# EAGLE library part AD1939WBSTZ (library AD1939WBSTZ)
Audio Codec 4ADC / 8DAC 24-Bit LQFP64 Analog Devices, Audio Codec Stereo Audio 12-channel 24bit- 192kHz Serial 64-Pin LQFP Source: Datasheet <https://componentsearchengine.com/Datasheets/1/AD1939WBSTZ.pdf>
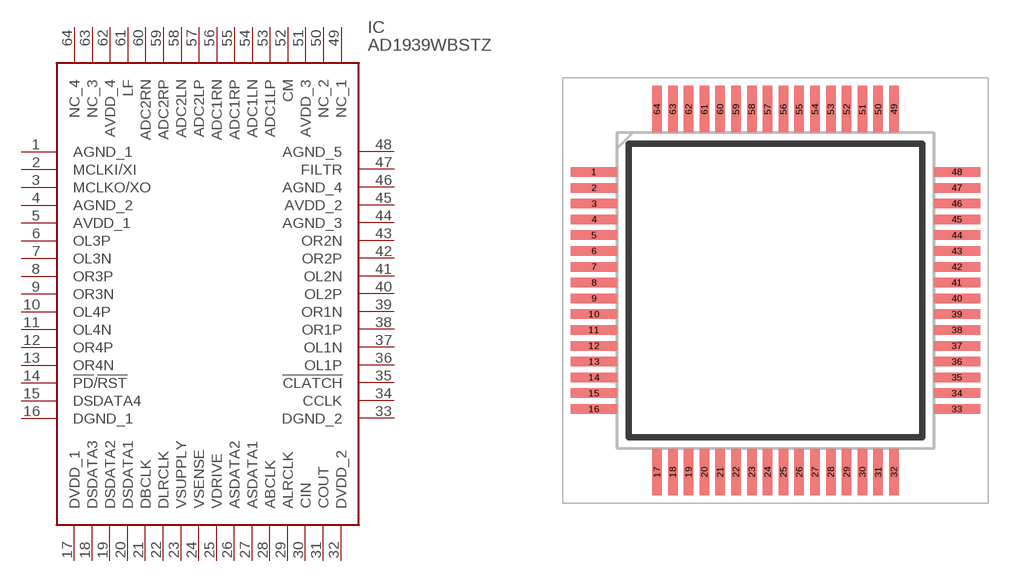
[diagram p0: symbol with the pads of QFP50P1200X1200X160-64N; footprint QFP50P1200X1200X160-64N]

Designator prefix IC

## AD1939WBSTZ (Description: Audio Codec 4ADC / 8DAC 24-Bit LQFP64 Analog Devices, Audio Codec Stereo Audio 12-channel 24bit- 192kHz Serial 64-Pin LQFP; Height: 1.6mm; Manufacturer_Name: Analog Devices; Manufacturer_Part_Number: AD1939WBSTZ; Mouser_Part_Number: 584-AD1939WBSTZ)  [QFP50P1200X1200X160-64N]
1  AGND_1
2  MCLKI/XI
3  MCLKO/XO
4  AGND_2
5  AVDD_1
6  OL3P
7  OL3N
8  OR3P
9  OR3N
10  OL4P
11  OL4N
12  OR4P
13  OR4N
14  !PD!/!RST
15  DSDATA4
16  DGND_1
17  DVDD_1
18  DSDATA3
19  DSDATA2
20  DSDATA1
21  DBCLK
22  DLRCLK
23  VSUPPLY
24  VSENSE
25  VDRIVE
26  ASDATA2
27  ASDATA1
28  ABCLK
29  ALRCLK
30  CIN
31  COUT
32  DVDD_2
33  DGND_2
34  CCLK
35  !CLATCH
36  OL1P
37  OL1N
38  OR1P
39  OR1N
40  OL2P
41  OL2N
42  OR2P
43  OR2N
44  AGND_3
45  AVDD_2
46  AGND_4
47  FILTR
48  AGND_5
49  NC_1
50  NC_2
51  AVDD_3
52  CM
53  ADC1LP
54  ADC1LN
55  ADC1RP
56  ADC1RN
57  ADC2LP
58  ADC2LN
59  ADC2RP
60  ADC2RN
61  LF
62  AVDD_4
63  NC_3
64  NC_4

## Footprint QFP50P1200X1200X160-64N (pad centres in mm)
ST-64-2 (LQFP)
smd 1.475 x 0.3: 1 -5.738,3.75; 2 -5.738,3.25; 3 -5.738,2.75; 4 -5.738,2.25; 5 -5.738,1.75; 6 -5.738,1.25; 7 -5.738,0.75; 8 -5.738,0.25; 9 -5.738,-0.25; 10 -5.738,-0.75; 11 -5.738,-1.25; 12 -5.738,-1.75; 13 -5.738,-2.25; 14 -5.738,-2.75; 15 -5.738,-3.25; 16 -5.738,-3.75; 33 5.738,-3.75; 34 5.738,-3.25; 35 5.738,-2.75; 36 5.738,-2.25; 37 5.738,-1.75; 38 5.738,-1.25; 39 5.738,-0.75; 40 5.738,-0.25; 41 5.738,0.25; 42 5.738,0.75; 43 5.738,1.25; 44 5.738,1.75; 45 5.738,2.25; 46 5.738,2.75; 47 5.738,3.25; 48 5.738,3.75
smd 0.3 x 1.475: 17 -3.75,-5.738; 18 -3.25,-5.738; 19 -2.75,-5.738; 20 -2.25,-5.738; 21 -1.75,-5.738; 22 -1.25,-5.738; 23 -0.75,-5.738; 24 -0.25,-5.738; 25 0.25,-5.738; 26 0.75,-5.738; 27 1.25,-5.738; 28 1.75,-5.738; 29 2.25,-5.738; 30 2.75,-5.738; 31 3.25,-5.738; 32 3.75,-5.738; 49 3.75,5.738; 50 3.25,5.738; 51 2.75,5.738; 52 2.25,5.738; 53 1.75,5.738; 54 1.25,5.738; 55 0.75,5.738; 56 0.25,5.738; 57 -0.25,5.738; 58 -0.75,5.738; 59 -1.25,5.738; 60 -1.75,5.738; 61 -2.25,5.738; 62 -2.75,5.738; 63 -3.25,5.738; 64 -3.75,5.738